# Altium footprint library SmallPulseXFMR.PcbLib: 1 footprints
Each footprint in its own frame and in the unit in brackets; x right, y up, seen from the top. Pads: shape width x height; smd on the part's side, far side on the other; paste and mask are expansions set on the pad; w line width, h text height; cw(c..) or ccw(c..) is an arc to the next point about the centre after c.
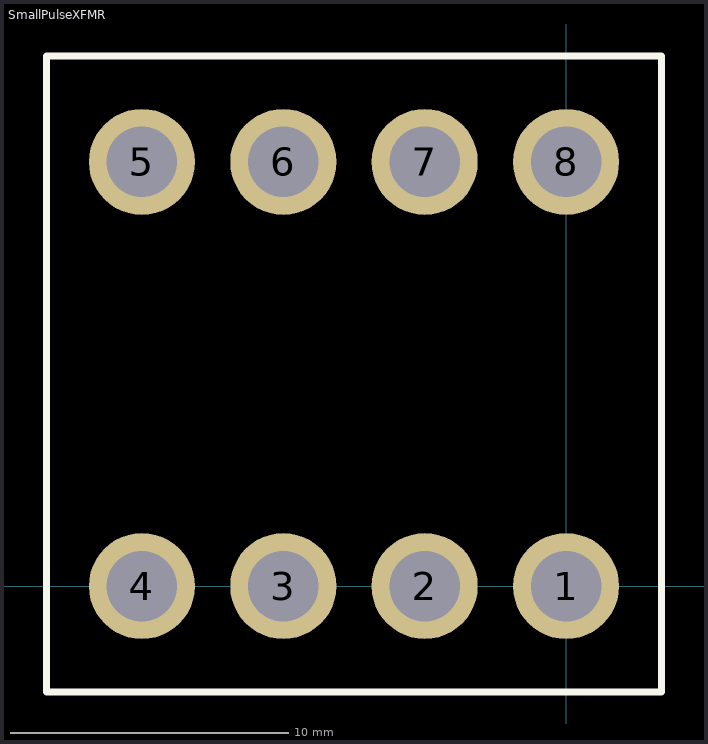
[diagram p0: the footprint, top view; thin cyan lines are the x and y axes]

## SmallPulseXFMR [mil] "Pulse 020-5423.0 5V 230V xmfr"
pads (8):
  round 150 hole 100: 1(0,0) 2(-200,0) 3(-400,0) 4(-600,0) 5(-600,600) 6(-400,600) 7(-200,600) 8(0,600)
Top Overlay:
  lines w10: -735,-150 -735,750 135,750 135,-150 -735,-150